# EAGLE library part MT6-8Y (library con-amp-mt)
AMP MT6 CONNECTOR
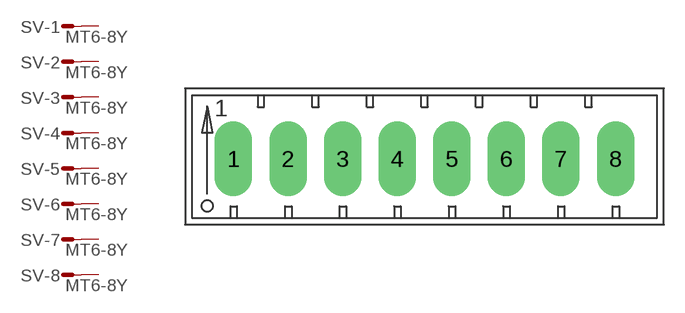
[diagram p30: symbol with the pads of MT6-8Y; footprint MT6-8Y]

Designator prefix SV; gates -1=MA -2=MA -3=MA -4=MA -5=MA -6=MA -7=MA -8=MA

## MT6-8Y (OC_FARNELL: unknown; OC_NEWARK: unknown)  [MT6-8Y]
1  -1:S  pas
2  -2:S  pas
3  -3:S  pas
4  -4:S  pas
5  -5:S  pas
6  -6:S  pas
7  -7:S  pas
8  -8:S  pas

## Footprint MT6-8Y (pad centres in mm)
AMP MT6 CONNECTOR
drill 1.803 long: 1 -13.868,0; 2 -9.906,0; 3 -5.944,0; 4 -1.981,0; 5 1.981,0; 6 5.944,0; 7 9.906,0; 8 13.868,0